# Altium footprint library EEEHC1H2R2R (1714713).PcbLib: 1 footprints
Each footprint in its own frame and in the unit in brackets; x right, y up, seen from the top. Pads: shape width x height; smd on the part's side, far side on the other; paste and mask are expansions set on the pad; w line width, h text height; cw(c..) or ccw(c..) is an arc to the next point about the centre after c.
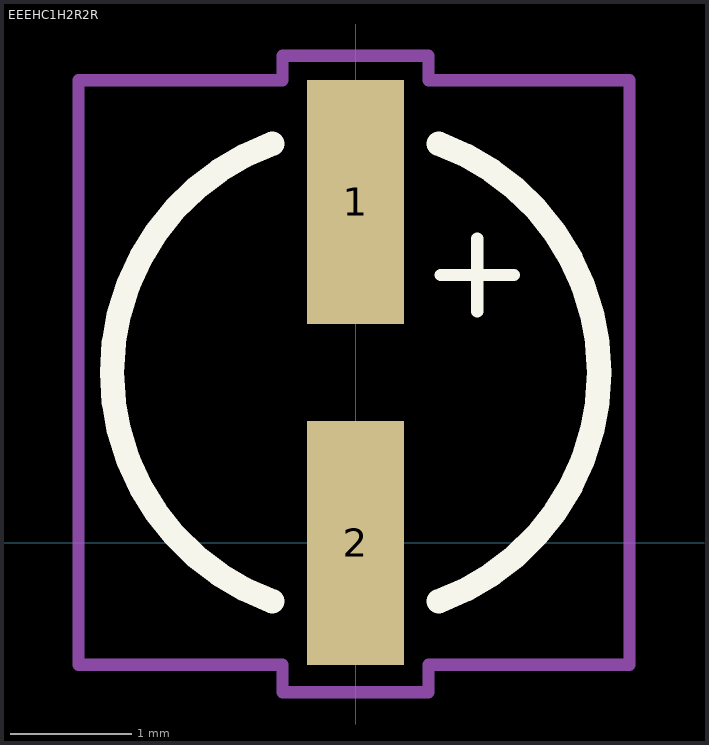
[diagram p0: the footprint, top view; thin cyan lines are the x and y axes]

## EEEHC1H2R2R [mm] "PANASONIC - EEEHC1H2R2R - CAPACITOR, ELECTROLYTIC, 50V, 2.2UF"
height 5.8
pads (2):
  rect 0.8x2 smd: 1(0,2.8) 2(0,0)
Top Overlay:
  lines w0.1: 0.7,2.2 1.3,2.2 ; 1,1.9 1,2.5
  lines w0.2: -0.684,-0.479 cw(c0,1.4) -0.684,3.279 ; 0.684,-0.479 ccw(c0,1.4) 0.684,3.279
Mechanical 15:
  lines w0.1: -2.275,-1 -2.275,3.8 -0.65,3.8 -0.6,3.8 -0.6,4 -0.125,4 0.6,4 0.6,3.8 2.25,3.8 2.25,-1 0.6,-1 0.6,-1.225 -0.6,-1.225 -0.6,-1 -2.275,-1
3D body: height 5.9, standoff 0, extent -2.15,-0.9 2.15,3.7